# Altium schematic symbol library nxp-diode.SchLib: 22 symbols
Pins are listed as number, name and electrical type; pins without a type are passive.

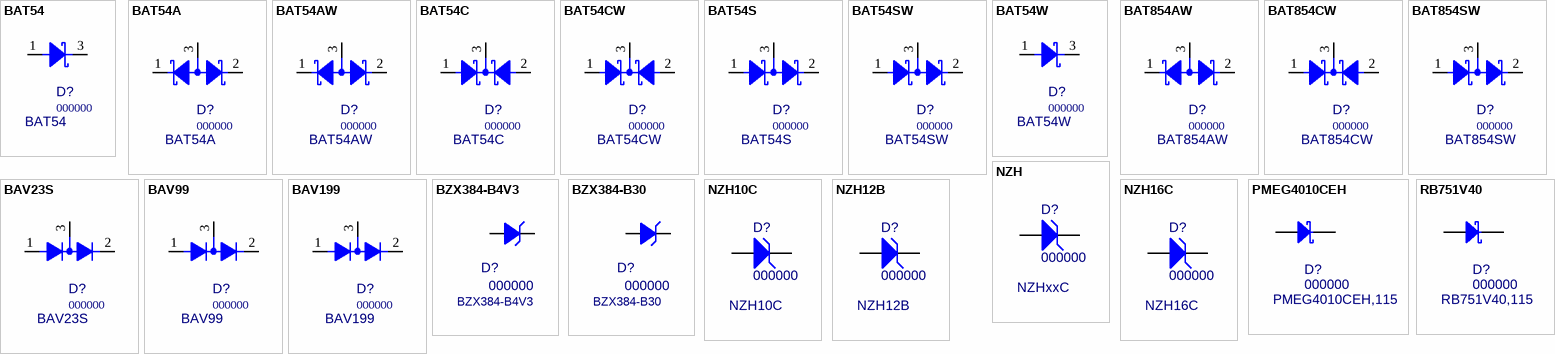
[diagram p0: symbols BAT54 to RB751V40]

## BAT54
designator D?, comment 000000  value BAT54
Schottky Barrier Diode, 30V, 20mA; PN: 000000; Package: SOT23; ExtraInfo: *
footprint SOT-23-M (SOT23, 3-Leads, Body 3.0x2.8mm (max), Pitch 0.95mm, Medium Density)
pins: 1 A1, 3 K

## BAT54A
designator D?, comment 000000  value BAT54A
Schottky Barrier Double Diode, 30V, 200mA; PN: 000000; Package: SOT23; ExtraInfo: *
footprint SOT-23-M (SOT23, 3-Leads, Body 3.0x2.8mm (max), Pitch 0.95mm, Medium Density)
pins: 1 A1, 2 A2, 3 K

## BAT54AW
designator D?, comment 000000  value BAT54AW
Schottky Barrier Double Diode; PN: 000000; Package: SOT323; ExtraInfo: *
footprint SOT323 (SC-70/SOT323)
pins: 1 A1, 2 A2, 3 K

## BAT54C
designator D?, comment 000000  value BAT54C
Schottky Barrier Double Diode, 30V, 200mA; PN: 000000; Package: SOT23; ExtraInfo: *
footprint SOT-23-M (SOT23, 3-Leads, Body 3.0x2.8mm (max), Pitch 0.95mm, Medium Density)
pins: 1 A1, 2 A2, 3 K

## BAT54CW
designator D?, comment 000000  value BAT54CW
Schottky Barrier Double Diode; PN: 000000; Package: SOT323; ExtraInfo: *
footprint SOT323 (SC-70/SOT323)
pins: 1 A1, 2 A2, 3 K

## BAT54S
designator D?, comment 000000  value BAT54S
Schottky Barrier Double Diode, 30V, 200mA; PN: 000000; Package: SOT23; ExtraInfo: *
footprint SOT-23 (SOT23, 3-Leads, Body 3.0x2.8mm (max), Pitch 0.95mm, IPC High Density)
pins: 1 A1, 2 A2, 3 K

## BAT54SW
designator D?, comment 000000  value BAT54SW
Schottky Barrier Double Diode; PN: 000000; Package: SOT323; ExtraInfo: *
footprint SOT323 (SC-70/SOT323)
pins: 1 A1, 2 A2, 3 K

## BAT54W
designator D?, comment 000000  value BAT54W
Schottky Barrier Diode, 30V, 20mA; PN: 000000; Package: SOT323; ExtraInfo: *
footprint SOT323 (SC-70/SOT323)
pins: 1 A1, 3 K

## BAT854AW
designator D?, comment 000000  value BAT854AW
Schottky Barrier Double Diode; PN: 000000; Package: SOT323; ExtraInfo: *
footprint SOT323 (SC-70/SOT323)
pins: 1 A1, 2 A2, 3 K

## BAT854CW
designator D?, comment 000000  value BAT854CW
Schottky Barrier Double Diode; PN: 000000; Package: SOT323; ExtraInfo: *
footprint SOT323 (SC-70/SOT323)
pins: 1 A1, 2 A2, 3 K

## BAT854SW
designator D?, comment 000000  value BAT854SW
Schottky Barrier Double Diode; PN: 000000; Package: SOT323; ExtraInfo: *
footprint SOT323 (SC-70/SOT323)
pins: 1 A1, 2 A2, 3 K

## BAV23S
designator D?, comment 000000  value BAV23S
250V 200mA Switching Double Diode; MF PN: BAV23S,235; MF: Nexperia; PN: 000000; Package: SOT-23; ExtraInfo: *; Price: 0.04492; Digi-Key PN: BAV23SFSCT-ND
simulation model BAV99 (Model Description)
footprint SOT-23-HV (SOT23, 3-Leads, Body 3.0x2.8mm (max), Pitch 0.95mm, IPC High Density)
footprint SOT-23-M (SOT23, 3-Leads, Body 3.0x2.8mm (max), Pitch 0.95mm, Medium Density)
pins: 1 A1, 2 K2, 3 K1A2

## BAV99
designator D?, comment 000000  value BAV99
100V 215mA Switching Double Diode; MF PN: BAV99,235; MF: Nexperia; PN: 000000; Package: SOT-23; ExtraInfo: *; Price: 0.01785; Digi-Key PN: 1727-2914-1-ND
simulation model BAV99 (Model Description)
footprint SOT-23-HV (SOT23, 3-Leads, Body 3.0x2.8mm (max), Pitch 0.95mm, IPC High Density)
footprint SOT-23-M (SOT23, 3-Leads, Body 3.0x2.8mm (max), Pitch 0.95mm, Medium Density)
pins: 1 A1, 2 K2, 3 K1A2

## BAV199
designator D?, comment 000000  value BAV199
75V 160mA Low-Leakage Double Diode; MF: Nexperia; MF PN: BAV199,235; PN: 000000; Package: SOT-23; ExtraInfo: *; Price: 0.03570; Digi-Key PN: 1727-2909-1-ND
simulation model BAV199
footprint SOT-23-M (SOT23, 3-Leads, Body 3.0x2.8mm (max), Pitch 0.95mm, Medium Density)
pins: 1 A1, 2 K2, 3 K1A2

## BZX384-B4V3
designator D?, comment 000000  value BZX384-B4V3
Zener Diode 2% 4.3V 300mW; MF: NXP; MF PN: BZX384-B4V3,115; PN: 000000; Package: SOD-323; ExtraInfo: *
footprint SOD-323-M (Molded Diode, 2-Leads, Medium Density)
footprint SOD-323-HV (Molded Diode, 2-Leads, Medium Density)
pins: 1 A, 2 K

## BZX384-B30
designator D?, comment 000000  value BZX384-B30
Zener Diode 2% 30V 300mW; MF: NXP; MF PN: BZX384-B30,115; PN: 000000; Package: SOD-323; ExtraInfo: *
footprint SOD-323-M (Molded Diode, 2-Leads, Medium Density)
footprint SOD-323-HV (Molded Diode, 2-Leads, Medium Density)
pins: 1 A, 2 K

## NZH
designator D?, comment 000000  value NZHxxC
Zener Diode; PN: 000000; Package: SOD123F; ExtraInfo: *
footprint SOD123F (Molded Diode, 2-Leads, Body 2.6x1.6mm, IPC Medium Density)
pins: 1 A, 2 K

## NZH10C
designator D?, comment 000000  value NZH10C
Zener Diode 10V, 500mW; PN: 000000; Package: SOD123F; ExtraInfo: *
simulation model NZH10C (Diode)
footprint SOD123F (Molded Diode, 2-Leads, Body 2.6x1.6mm, IPC Medium Density)
pins: 1 A, 2 K

## NZH12B
designator D?, comment 000000  value NZH12B
Zener Diode 12V, 500mW; PN: 000000; Package: SOD123F; ExtraInfo: *
simulation model NZH12B (Diode)
footprint SOD123F (Molded Diode, 2-Leads, Body 2.6x1.6mm, IPC Medium Density)
pins: 1 A, 2 K

## NZH16C
designator D?, comment 000000  value NZH16C
Zener Diode 16V, 500mW; PN: 000000; Package: SOD123F; ExtraInfo: *
simulation model NZH16C (Diode)
footprint SOD123F (Molded Diode, 2-Leads, Body 2.6x1.6mm, IPC Medium Density)
pins: 1 A, 2 K

## PMEG4010CEH
designator D?, comment 000000  value PMEG4010CEH,115
Schottky Barrier Diode 40V 1A; PN: 000000; Package: SOD-123F; ExtraInfo: *
footprint SOD123F (Molded Diode, 2-Leads, Body 2.6x1.6mm, IPC Medium Density)
pins: 1 A, 2 K

## RB751V40
designator D?, comment 000000  value RB751V40,115
40V 1200mA Schottky Barrier Diode; PN: 000000; Package: SOD-323; ExtraInfo: *
footprint SOD-323 (Molded Diode, 2-Leads)
pins: 1 A, 2 K